# EAGLE library part HD44780LCD (library VicMaster)
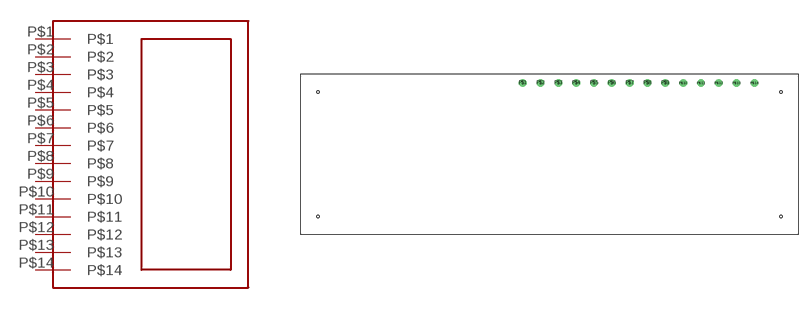
[diagram p9: symbol with the pads of HD44780; footprint HD44780]

Designator prefix -

## HD44780LCD  [HD44780]
P$1  P$1
P$2  P$2
P$3  P$3
P$4  P$4
P$5  P$5
P$6  P$6
P$7  P$7
P$8  P$8
P$9  P$9
P$10  P$10
P$11  P$11
P$12  P$12
P$13  P$13
P$14  P$14

## Footprint HD44780 (pad centres in mm)
drill 0.6: P$1 -13.97,13.97; P$2 -11.43,13.97; P$3 -8.89,13.97; P$4 -6.35,13.97; P$5 -3.81,13.97; P$6 -1.27,13.97; P$7 1.27,13.97; P$8 3.81,13.97; P$9 6.35,13.97; P$10 8.89,13.97; P$11 11.43,13.97; P$12 13.97,13.97; P$13 16.51,13.97; P$14 19.05,13.97
hole 0.35 at 22.86,12.7
hole 0.35 at -43.18,12.7
hole 0.35 at -43.18,-5.08
hole 0.35 at 22.86,-5.08